# Altium schematic symbol library 691 244 810 0xx.SchLib: 3 symbols
Pins are listed as number, name and electrical type; pins without a type are passive.

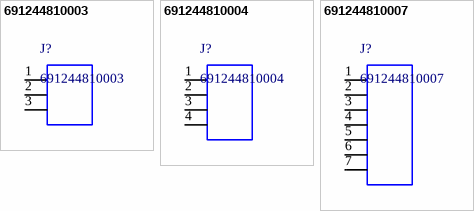
[diagram p0: symbols 691244810003 to 691244810007]

## 691244810003
designator J?
WR-TBL Horizontal Cable Entry With Rising Cage Clamp,Serie 2448 - 10.00 mm; Manufacturer: Wurth Elektronik; ComponentLink1 Description: Manufacturer; ComponentLink2 Description: Datasheet; ComponentLink1URL: http://www.we-online.de; ComponentLink2URL: http://katalog.we-online.de/em/datasheet/6912448100XX.pdf; Created by: Baojun Chen; Created Date: 15.Sep.2015; partNo: 691244810003
footprint 691244810003 (Serie 2448 - 10.00 mm _ 3 pins)
pins: 1, 2, 3

## 691244810004
designator J?
WR-TBL Horizontal Cable Entry With Rising Cage Clamp,Serie 2448 - 10.00 mm; Manufacturer: Wurth Elektronik; ComponentLink1 Description: Manufacturer; ComponentLink2 Description: Datasheet; ComponentLink1URL: http://www.we-online.de; ComponentLink2URL: http://katalog.we-online.de/em/datasheet/6912448100XX.pdf; Created by: Baojun Chen; Created Date: 15.Sep.2015; partNo: 691244810004
footprint 691244810004 (Serie 2448 - 10.00 mm _ 4 pins)
pins: 1, 2, 3, 4

## 691244810007
designator J?
WR-TBL Horizontal Cable Entry With Rising Cage Clamp,Serie 2448 - 10.00 mm; Manufacturer: Wurth Elektronik; ComponentLink1 Description: Manufacturer; ComponentLink2 Description: Datasheet; ComponentLink1URL: http://www.we-online.de; ComponentLink2URL: http://katalog.we-online.de/em/datasheet/6912448100XX.pdf; Created by: Baojun Chen; Created Date: 15.Sep.2015; partNo: 691244810007
footprint 691244810007 (Serie 2448 - 10.00 mm _ 7 pins)
pins: 1, 2, 3, 4, 5, 6, 7